# EAGLE library part PIN_HEADER_MALE_2X04_08P (library 180118 Library by matsu)
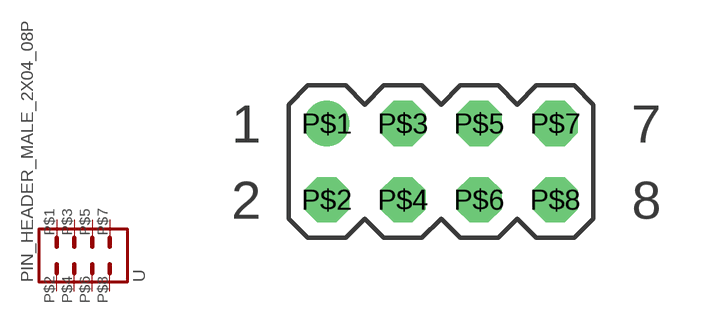
[diagram p42: symbol with the pads of PIN_HEADER_MALE_2X04_08P; footprint PIN_HEADER_MALE_2X04_08P]

Designator prefix -

## PIN_HEADER_MALE_2X04_08P  [PIN_HEADER_MALE_2X04_08P]
P$1  P$1
P$2  P$2
P$3  P$3
P$4  P$4
P$5  P$5
P$6  P$6
P$7  P$7
P$8  P$8

## Footprint PIN_HEADER_MALE_2X04_08P (pad centres in mm)
drill 1: P$1 -3.81,1.27
drill 1 octagon: P$2 -3.81,-1.27; P$3 -1.27,1.27; P$4 -1.27,-1.27; P$5 1.27,1.27; P$6 1.27,-1.27; P$7 3.81,1.27; P$8 3.81,-1.27